# EAGLE library part LMR324 (library op-amp)
IC OPAMP LP GP
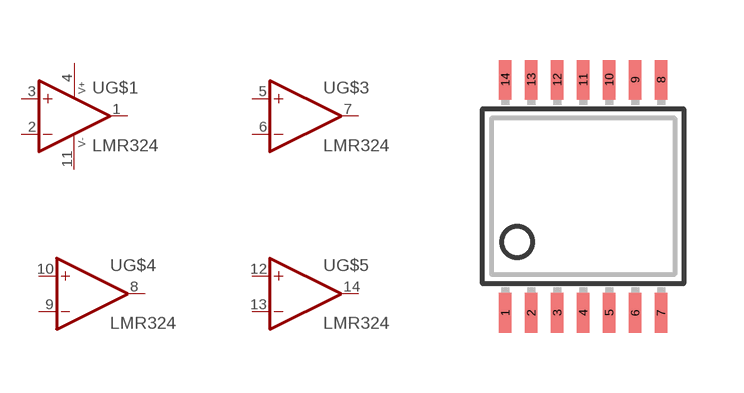
[diagram p73: symbol with the pads of TSSOP14; footprint TSSOP14]

Designator prefix U; gates G$1=OPAMP G$2=PWR+- G$3=OPAMP G$4=OPAMP G$5=OPAMP

## LMR324 (DIGIKEY: LMR324FVJ-E2CT-ND; MFR: Rohm Semiconductor; MPN: LMR324FV-GE2; P1I: o)  [TSSOP14]
1  G$1:OUT  out
2  G$1:-IN  in
3  G$1:+IN  in
4  G$2:V+  pwr
5  G$3:+IN  in
6  G$3:-IN  in
7  G$3:OUT  out
8  G$4:OUT  out
9  G$4:-IN  in
10  G$4:+IN  in
11  G$2:V-  pwr
12  G$5:+IN  in
13  G$5:-IN  in
14  G$5:OUT  out

## Footprint TSSOP14 (pad centres in mm)
Thin Shrink Small Outline Plastic 14
smd 0.305 x 0.991: 1 -1.95,-2.918; 2 -1.3,-2.918; 3 -0.65,-2.918; 4 0,-2.918; 5 0.65,-2.918; 6 1.3,-2.918; 7 1.95,-2.918; 8 1.95,2.918; 9 1.3,2.918; 10 0.65,2.918; 11 0,2.918; 12 -0.65,2.918; 13 -1.3,2.918; 14 -1.95,2.918